# EAGLE library part UX60-MB-5S8 (library nerd100)
USB mini-B receptor
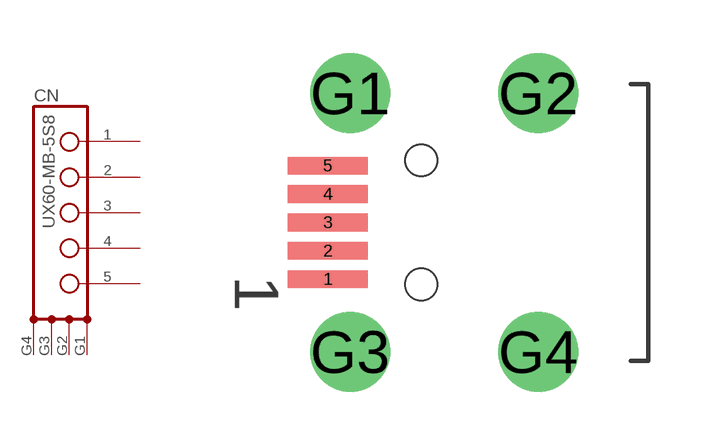
[diagram p1: symbol with the pads of UX60-MB-5S8; footprint UX60-MB-5S8]

Designator prefix CN

## UX60-MB-5S8UX60-MB-5S8  [UX60-MB-5S8]
1  VBUS  sup
2  D-
3  D+
4  ID
5  GND  sup
G1  P$1  pas
G2  P$2  pas
G3  P$3  pas
G4  P$4  pas

## Footprint UX60-MB-5S8 (pad centres in mm)
smd 2.25 x 0.5: 1 -2.629,-1.6; 2 -2.629,-0.8; 3 -2.629,0; 4 -2.629,0.8; 5 -2.629,1.6
drill 1.5 round: G1 -2,3.65; G2 3.3,3.65; G3 -2,-3.65; G4 3.3,-3.65
hole 0.9 at 0,1.75
hole 0.9 at 0,-1.75